# Altium schematic symbol library BMP.SchLib: 1 symbol
Pins are listed as number, name and electrical type; pins without a type are passive.

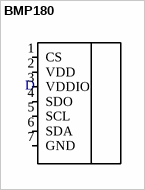
[diagram p0: symbol BMP180]

## BMP180
designator D  (value not drawn)
footprint BMP180 (CQFP, 4-Leads, Body 33,53x33,53mm, Pitch 1,50mm, IPC Medium Density)
pins: 1 CS, 2 VDD, 3 VDDIO, 4 SDO, 5 SCL, 6 SDA, 7 GND